# EAGLE library part D-FF4 (library digital)
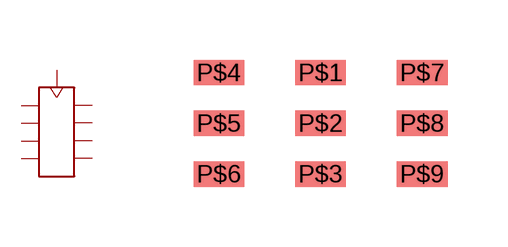
[diagram p1: symbol with the pads of 9PIN; footprint 9PIN]

Designator prefix -

## D-FF4  [9PIN]
P$1  CLK
P$2  D1
P$3  D2
P$4  D3
P$5  D4
P$6  Q1
P$7  Q2
P$8  Q3
P$9  Q4

## Footprint 9PIN (pad centres in mm)
smd 1.27 x 0.635: P$1 0,1.27; P$2 0,0; P$3 0,-1.27; P$4 -2.54,1.27; P$5 -2.54,0; P$6 -2.54,-1.27; P$7 2.54,1.27; P$8 2.54,0; P$9 2.54,-1.27